# EAGLE library part ARDUINO_UNO_SHIELD (library ElcPartsLibrary)
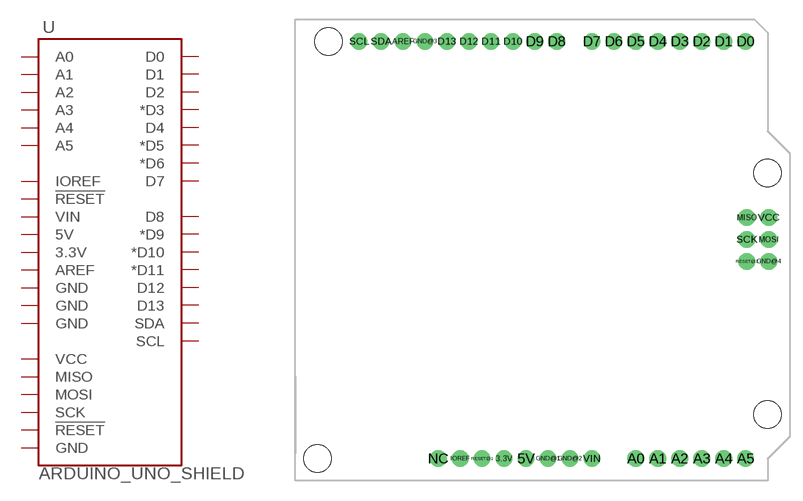
[diagram p9: symbol with the pads of ARDUINO_R3; footprint ARDUINO_R3]

Designator prefix -

## ARDUINO_UNO_SHIELD  [ARDUINO_R3]
3.3V  3.3V
5V  5V
A0  A0
A1  A1
A2  A2
A3  A3
A4  A4
A5  A5
AREF  AREF
D0  D0
D1  D1
D2  D2
D3  *D3
D4  D4
D5  *D5
D6  *D6
D7  D7
D8  D8
D9  *D9
D10  *D10
D11  *D11
D12  D12
D13  D13
GND@1  GND
GND@2  GND
GND@3  GND
GND@4  GND
IOREF  IOREF
MISO  MISO
MOSI  MOSI
RESET@1  !RESET!
RESET@2  !RESET!
SCK  SCK
SCL  SCL
SDA  SDA
VCC  VCC
VIN  VIN

## Footprint ARDUINO_R3 (pad centres in mm)
Arduino Uno R3 Footprint Includes mounting holes, and holes for ICSP header Specifications: Pin count: 38 Area:2.7x2.1in Datasheet referenced for footprint: Example device(s): Arduino Uno R3
drill 1.016 pad 1.93: 3.3V 24.13,2.54; 5V 26.67,2.54; A0 39.37,2.54; A1 41.91,2.54; A2 44.45,2.54; A3 46.99,2.54; A4 49.53,2.54; A5 52.07,2.54; AREF 12.446,50.8; D0 52.07,50.8; D1 49.53,50.8; D2 46.99,50.8; D3 44.45,50.8; D4 41.91,50.8; D5 39.37,50.8; D6 36.83,50.8; D7 34.29,50.8; D8 30.226,50.8; D9 27.686,50.8; D10 25.146,50.8; D11 22.606,50.8; D12 20.066,50.8; D13 17.526,50.8; GND@1 29.21,2.54; GND@2 31.75,2.54; GND@3 14.986,50.8; GND@4 54.75,25.35; IOREF 19.05,2.54; MISO 52.21,30.43; MOSI 54.75,27.89; NC 16.51,2.54; RESET@1 21.59,2.54; RESET@2 52.21,25.35; SCK 52.21,27.89; SCL 7.366,50.8; SDA 9.906,50.8; VCC 54.75,30.43; VIN 34.29,2.54
hole 3.175 at 3.81,50.8
hole 3.175 at 54.61,35.56
hole 3.175 at 54.61,7.62
hole 3.175 at 2.54,2.54